# Altium schematic symbol library 85201239.SchLib: 1 symbol
Pins are listed as number, name and electrical type; pins without a type are passive.

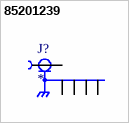
[diagram p0: symbol 85201239]

## 85201239
designator J?
SMA Connector Jack, Female Socket 50 Ohms Through Hole, Right Angle Solder; MF: HUBER+SUHNER; MP: 85_SMA-50-0-103/111_NE; SnapEDA_Link: https://www.snapeda.com/parts/85_SMA-50-0-103/111_NE/Huber%252BSuhner/view-part/?ref=snap; Package: None; Value: *; Check_prices: https://www.snapeda.com/parts/85_SMA-50-0-103/111_NE/Huber%252BSuhner/view-part/?ref=eda
footprint HUBER+SUHNER_85201239
pins: 1, G1 (power), G2 (power), G3 (power), G4 (power)